# Altium integrated library Smart Switch.IntLib: 5 symbols
Pins are listed as number, name and electrical type; pins without a type are passive.

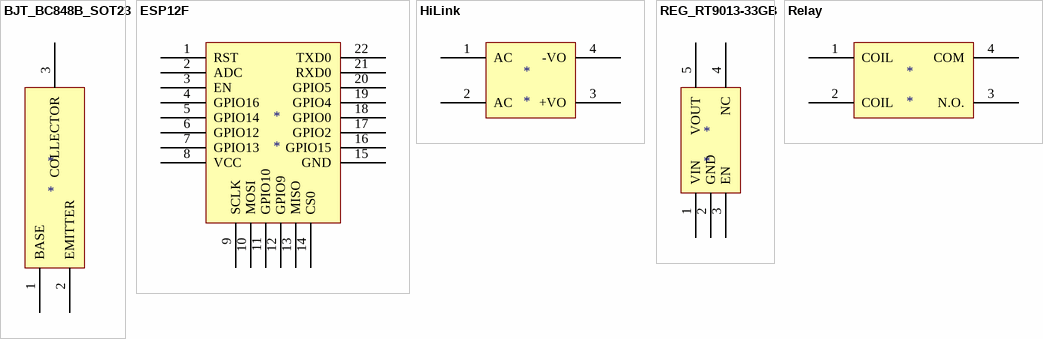
[diagram p0: symbols BJT_BC848B_SOT23 to Relay]

## BJT_BC848B_SOT23
designator *
footprint BJT_BC848B_SOT23
pins: 1 BASE, 2 EMITTER, 3 COLLECTOR

## ESP12F
designator *
footprint ESP12F
pins: 1 RST, 2 ADC, 3 EN, 4 GPIO16, 5 GPIO14, 6 GPIO12, 7 GPIO13, 8 VCC, 9 SCLK, 10 MOSI, 11 GPIO10, 12 GPIO9, 13 MISO, 14 CS0, 15 GND, 16 GPIO15, 17 GPIO2, 18 GPIO0, 19 GPIO4, 20 GPIO5, 21 RXD0, 22 TXD0

## HiLink
designator *
footprint HiLink
pins: 1 AC, 2 AC, 3 +VO, 4 -VO

## REG_RT9013-33GB
designator *
footprint REG_RT9013-33GB
pins: 1 VIN, 2 GND, 3 EN, 4 NC, 5 VOUT

## Relay
designator *
footprint Relay
pins: 1 COIL, 2 COIL, 3 N.O., 4 COM